# Altium schematic symbol library TMA.SchLib: 2 symbols
Pins are listed as number, name and electrical type; pins without a type are passive.

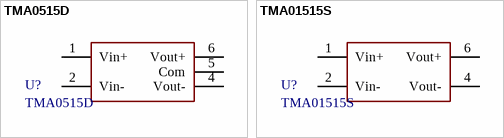
[diagram p0: symbols TMA0515D to TMA01515S]

## TMA0515D
designator U?
5V to +/-15V TMA Series, 1 Watt
footprint Dual (DC-DC)
pins: 1 Vin+, 2 Vin-, 4 Vout-, 5 Com, 6 Vout+

## TMA01515S
designator U?
15V to 15V TMA Series, 1 Watt
footprint single (DC-DC)
pins: 1 Vin+, 2 Vin-, 4 Vout-, 6 Vout+